# Altium footprint library Feather M4 CAN Express-Footprint.PcbLib: 1 footprints
Each footprint in its own frame and in the unit in brackets; x right, y up, seen from the top. Pads: shape width x height; smd on the part's side, far side on the other; paste and mask are expansions set on the pad; w line width, h text height; cw(c..) or ccw(c..) is an arc to the next point about the centre after c.
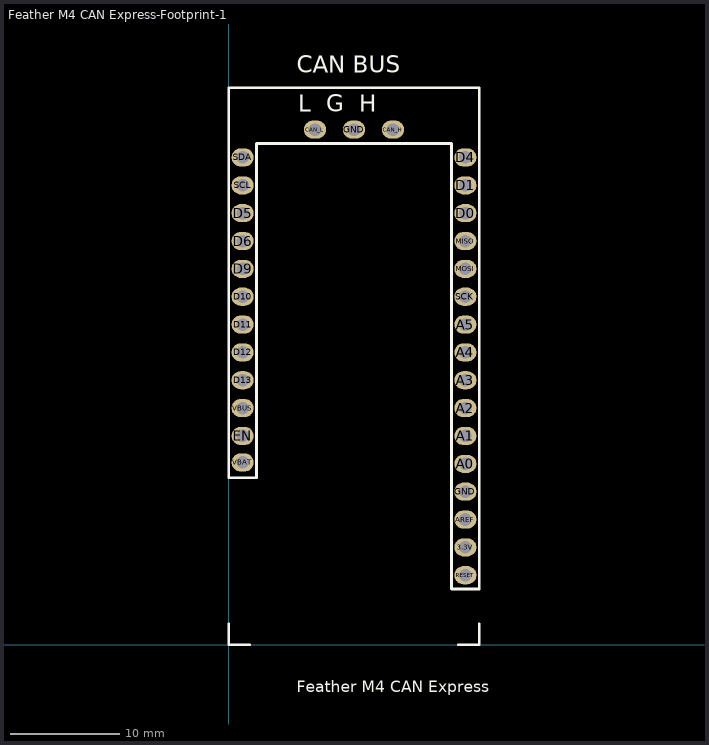
[diagram p0: the footprint, top view; thin cyan lines are the x and y axes]

## Feather M4 CAN Express-Footprint-1 [mil]
pads (31):
  oval 80x65 hole 45: 3.3V(850,350) A0(850,650) A1(850,750) A2(850,850) A3(850,950) A4(850,1050) A5(850,1150) AREF(850,450) CAN_H(590,1850) CAN_L(310,1850) D0(850,1550) D1(850,1650) D4(850,1750) D5(50,1550) D6(50,1450) D9(50,1350) D10(50,1250) D11(50,1150) D12(50,1050) D13(50,950) EN(50,750) GND(450,1850) GND(850,550) MISO(850,1450) MOSI(850,1350) RESET(850,250) SCK(850,1250) SCL(50,1650) SDA(50,1750) VBAT(50,655) VBUS(50,850)
Top Overlay:
  lines w10: 0,75 0,0 75,0 ; 825,0 900,0 900,75 ; 0,600 100,600 100,1800 800,1800 800,200 900,200 900,2000 0,2000 0,1990 0,600
  text "L  G  H" at 250,1915 h60
  text "CAN BUS" at 245,2055 h60
  text "Feather M4 CAN Express" at 245,-170 h40
3D body "Pin Header 1x1 TH Pitch 2.54mm.stp": height 575.98, standoff 76.15, extent 540,1800 640,1900
3D body "Pin Header 1x1 TH Pitch 2.54mm.stp": height 575.98, standoff 76.15, extent 400,1800 500,1900
3D body "Pin Header 1x1 TH Pitch 2.54mm.stp": height 575.98, standoff 76.15, extent 260,1800 360,1900
3D body "3857 Adafruit Feather M4 Express.stp": height 705.79, standoff 455, extent 0,-2.17 900,2000
3D body "Pin Header 1x12 TH Pitch 2.54mm.stp": height 575.98, standoff 76.15, extent 0,600 100,1800
3D body "Pin Header 1x16 TH Pitch 2.54mm.stp": height 575.98, standoff 76.15, extent 800,200 900,1800